# Altium footprint library PCB - LEADED - SOT - TI SOT-563 DRL.PCBLIB: 1 footprints
Each footprint in its own frame and in the unit in brackets; x right, y up, seen from the top. Pads: shape width x height; smd on the part's side, far side on the other; paste and mask are expansions set on the pad; w line width, h text height; cw(c..) or ccw(c..) is an arc to the next point about the centre after c.
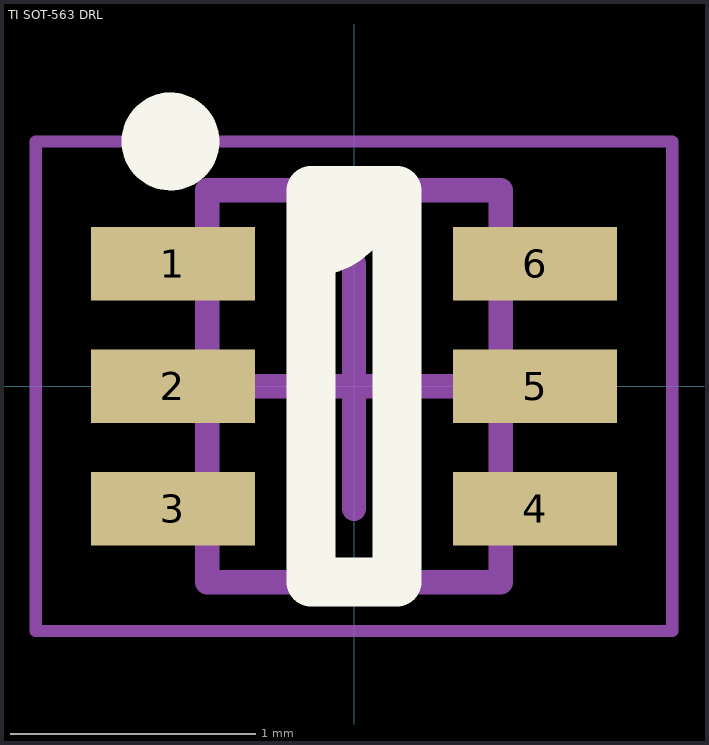
[diagram p0: the footprint, top view; thin cyan lines are the x and y axes]

## TI SOT-563 DRL [mm] "SOT DRL, 6-Leads, Body 1.10x1.60mm, Pitch 0.5mm, IPC Medium Density"
height 0.6
pads (6):
  rect 0.67x0.3 smd mask+0.07: 1(-0.74,0.5) 2(-0.74,0) 3(-0.74,-0.5) 4(0.74,-0.5) 5(0.74,0) 6(0.74,0.5)
Top Overlay:
  circle w0.2: c-0.75,1 r0.1
  region: -0.175,0.8 0.125,0.8 0.058,0.6 -0.175,0.6
  lines w0.2: -0.175,0.55 ccw(c-0.175,0.8) 0.075,0.8 ; -0.175,-0.8 0.175,-0.8 0.175,0.8 -0.175,0.8 -0.175,-0.8
Mechanical 13:
  lines w0.1: -0.6,-0.8 0.6,-0.8 0.6,0.8 -0.6,0.8 -0.6,-0.8
Mechanical 15:
  lines w0.05: -1.3,-1 1.3,-1 1.3,1 -1.3,1 -1.3,-1
Mechanical 2 (Mech9):
  lines w0.1: -0.5,0 0.5,0 ; 0,-0.5 0,0.5
3D body "TI - SOT-563 DRL.step": height 0.6, standoff 0, extent -0.8,-0.797 0.8,0.797